# Altium footprint library PCB_Buzzer.PcbLib: 1 footprints
Each footprint in its own frame and in the unit in brackets; x right, y up, seen from the top. Pads: shape width x height; smd on the part's side, far side on the other; paste and mask are expansions set on the pad; w line width, h text height; cw(c..) or ccw(c..) is an arc to the next point about the centre after c.
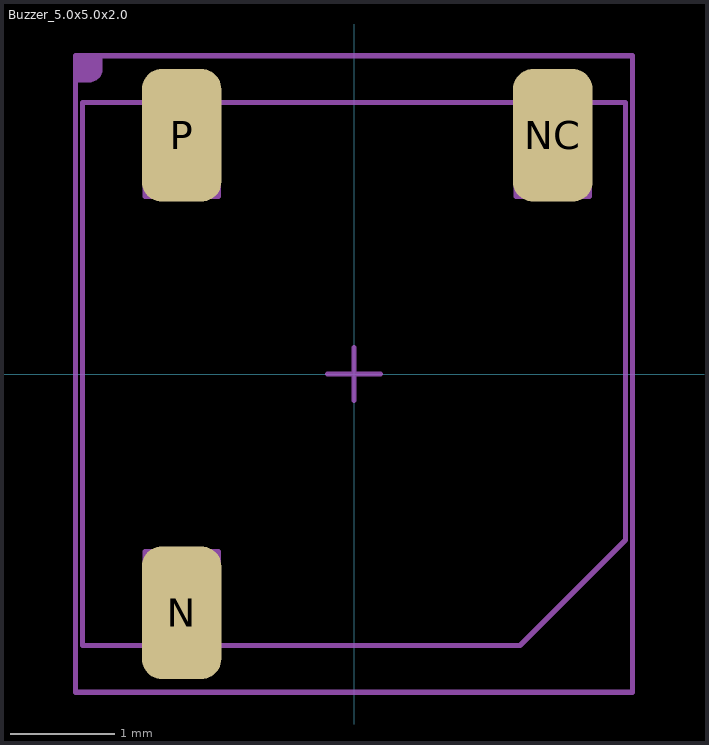
[diagram p0: the footprint, top view; thin cyan lines are the x and y axes]

## Buzzer_5.0x5.0x2.0 [mil]
pads (3):
  rrect50% 30x50 smd: N(-65.01,-90) NC(74.99,90) P(-65.01,90)
Mechanical 4:
  text "+" at -85,25 h30
  text "-" at -85,-65 h30
Mechanical 13:
  lines w2: -10,0 10,0 ; 0,-10 0,10
  lines w2.01: -102.36,-102.36 62.64,-102.36 102.36,-62.64 102.36,102.36 -102.36,102.36 -102.36,-102.36 ; -78.79,-102.36 -78.79,-66.93 -51.23,-66.93 -51.23,-102.36 -78.79,-102.36 ; -78.79,66.93 -51.23,66.93 -51.23,102.36 -78.79,102.36 -78.79,66.93 ; 61.21,66.93 88.77,66.93 88.77,102.36 61.21,102.36 61.21,66.93
T-Component:
  region: -105,120 -95,120 -95,115 -95,114.01 -95.76,112.17 -97.17,110.76 -99.01,110 -100,110 -105,110
  lines w2: -105,-120 -105,120 105,120 105,-120 -105,-120
  text ".Designator" at -297.98,-25.85 h120
3D body "User Library-Beep_5020_SMT.STEP": height 79.74, standoff 0.61, extent -97.35,-102.36 107.37,102.36